# Altium footprint library XH2.54.PcbLib: 22 footprints (part 2 of 2)
Each footprint in its own frame and in the unit in brackets; x right, y up, seen from the top. Pads: shape width x height; smd on the part's side, far side on the other; paste and mask are expansions set on the pad; w line width, h text height; cw(c..) or ccw(c..) is an arc to the next point about the centre after c.
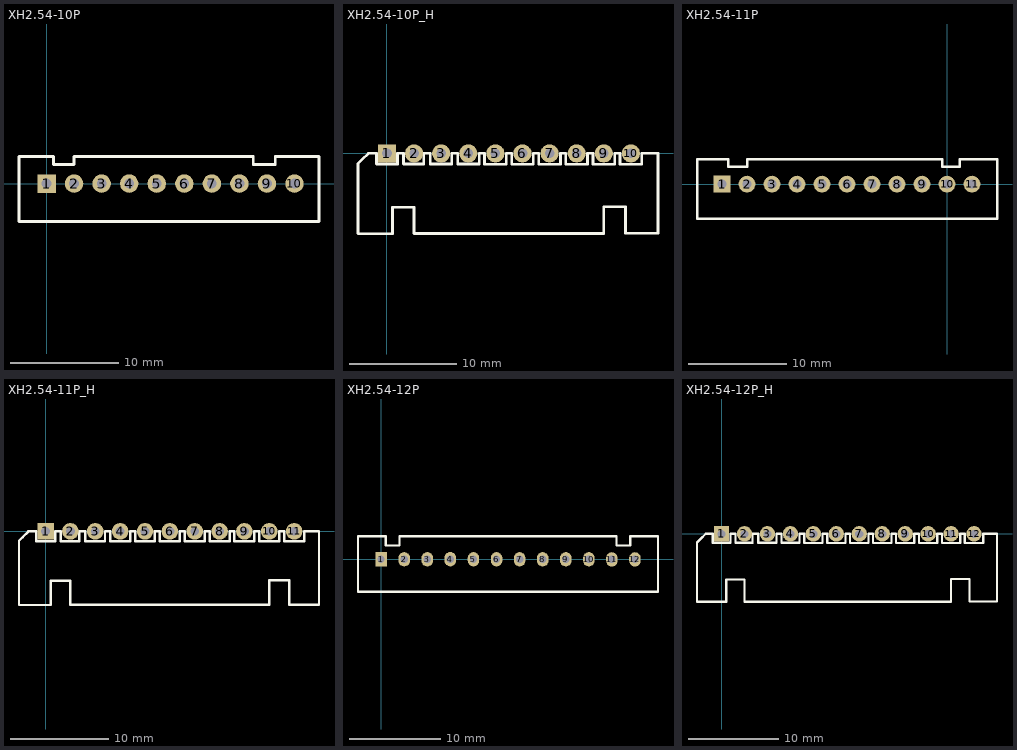
[diagram p1: the footprints below, top view; thin cyan lines are the x and y axes]

## XH2.54-10P [mm] "接插件，10P"
pads (10):
  rect 1.7x1.7 hole 0.9: 1(0,0)
  round 1.7 hole 0.9: 2(2.54,0) 3(5.08,0) 4(7.62,0) 5(10.16,0) 6(12.7,0) 7(15.24,0) 8(17.78,0) 9(20.32,0) 10(22.86,0)
Top Overlay:
  lines w0.254: -2.54,-3.5 25.121,-3.5 25.121,2.5 21.082,2.5 21.082,1.75 19.05,1.75 19.05,2.5 2.54,2.5 2.54,1.75 0.635,1.75 0.635,2.5 -2.54,2.5 -2.54,-3.5
3D body: height 7.03, standoff -2.47, extent -2.5,-3.3 25.36,2.4

## XH2.54-10P_H [mm] "接插件，10P"
pads (10):
  rect 1.7x1.7 hole 0.9: 1(0,0)
  round 1.7 hole 0.9: 2(2.54,0) 3(5.08,0) 4(7.62,0) 5(10.16,0) 6(12.7,0) 7(15.24,0) 8(17.78,0) 9(20.32,0) 10(22.86,0)
Top Overlay:
  lines w0.254: 3.434,0 3.434,-0.988 3.42,-1.002 1.554,-1.002 1.554,0 0.982,0 0.982,-0.982 0.996,-0.996 -0.96,-0.996 -0.974,-0.982 -0.974,0 -1.75,0 -2.332,-0.582 -2.716,-0.966 -2.716,-7.502 -2.69,-7.528 0.508,-7.528 0.508,-5.058 2.54,-5.058 2.54,-7.502 20.32,-7.502 20.32,-5.006 22.352,-5.006 22.352,-7.49 25.4,-7.49 25.4,0 23.876,0 23.876,-1.016 21.844,-1.016 21.844,0 21.336,0 21.336,-1.016 19.304,-1.016 19.304,0 18.796,0 18.796,-1.016 16.764,-1.016 16.764,0 16.256,0 16.256,-1.016 14.224,-1.016 14.224,0 13.716,0 13.716,-1.016 11.684,-1.016 11.684,0 11.176,0 11.176,-1.016 9.144,-1.016 9.144,0 8.636,0 8.636,-1.002 6.632,-1.002 6.632,0 ; 3.446,0 4.044,0 ; 4.058,-0.996 4.058,0 ; 4.078,-0.996 6.066,-0.996 6.072,-0.99 6.072,0 6.618,0
3D body: height 5.73, standoff -3.37, extent -2.5,-7.35 25.36,0.35

## XH2.54-11P [mm] "接插件，11P"
pads (11):
  rect 1.7x1.7 hole 0.9: 1(-22.86,0)
  round 1.7 hole 0.9: 2(-20.32,0) 3(-17.78,0) 4(-15.24,0) 5(-12.7,0) 6(-10.16,0) 7(-7.62,0) 8(-5.08,0) 9(-2.54,0) 10(0,0) 11(2.54,0)
Top Overlay:
  lines w0.254: -25.4,-3.5 -25.4,2.5 -22.225,2.5 -22.225,1.75 -20.32,1.75 -20.32,2.5 -0.508,2.5 -0.508,1.75 1.27,1.75 1.27,2.5 5.08,2.5 5.08,-3.5 -25.4,-3.5
3D body: height 7.03, standoff -3.37, extent -25.36,-3.3 5.04,2.4

## XH2.54-11P_H [mm] "接插件，11P"
pads (11):
  rect 1.7x1.7 hole 0.9: 1(0,0)
  round 1.7 hole 0.9: 2(2.54,0) 3(5.08,0) 4(7.62,0) 5(10.16,0) 6(12.7,0) 7(15.24,0) 8(17.78,0) 9(20.32,0) 10(22.86,0) 11(25.4,0)
Top Overlay:
  lines w0.254: 3.434,0 3.434,-0.988 3.42,-1.002 1.554,-1.002 1.554,0 0.982,0 0.982,-0.982 0.996,-0.996 -0.96,-0.996 -0.974,-0.982 -0.974,0 -1.75,0 -2.332,-0.582 -2.716,-0.966 -2.716,-7.502 -2.69,-7.528 0.508,-7.528 0.508,-5.058 2.54,-5.058 2.54,-7.502 22.86,-7.502 22.86,-5.006 24.892,-5.006 24.892,-7.49 27.94,-7.49 27.94,0 26.416,0 26.416,-1.016 24.384,-1.016 24.384,0 23.876,0 23.876,-1.016 21.844,-1.016 21.844,0 21.336,0 21.336,-1.016 19.304,-1.016 19.304,0 18.796,0 18.796,-1.016 16.764,-1.016 16.764,0 16.256,0 16.256,-1.016 14.224,-1.016 14.224,0 13.716,0 13.716,-1.016 11.684,-1.016 11.684,0 11.176,0 11.176,-1.016 9.144,-1.016 9.144,0 8.636,0 8.636,-1.002 6.632,-1.002 6.632,0 ; 3.446,0 4.044,0 ; 4.058,-0.996 4.058,0 ; 4.078,-0.996 6.066,-0.996 6.072,-0.99 6.072,0 6.618,0
3D body: height 5.73, standoff -3.37, extent -2.5,-7.35 27.9,0.35

## XH2.54-12P [mil] "接插件，12P"
pads (12):
  rect 50x62 hole 32: 1(0,0)
  oval 50x62 hole 32: 2(100.5,0.5) 3(200.5,0.5) 4(300,0.73) 5(400.5,0.5) 6(500.5,0.5) 7(600.5,0.5) 8(700.5,0.5) 9(800.5,0.5) 10(900.5,0.5) 11(1000,0) 12(1100,0)
Top Overlay:
  lines w10: -99.83,-140 -99.83,-79.35 -99.83,100 20,100 20,60 80,60 80,100 1020,100 1020,60 1080,60 1080,100 1200,100 1200,-140 -99.83,-140
3D body: height 277.56, standoff -96.46, extent -98.43,-129.92 1198.43,94.49

## XH2.54-12P_H [mm] "接插件，12P"
pads (12):
  rect 1.7x1.7 hole 0.9: 1(0,0)
  round 1.7 hole 0.9: 2(2.54,0) 3(5.08,0) 4(7.62,0) 5(10.16,0) 6(12.7,0) 7(15.24,0) 8(17.78,0) 9(20.32,0) 10(22.86,0) 11(25.4,0) 12(27.94,0)
Top Overlay:
  lines w0.254: 3.434,0 3.434,-0.988 3.42,-1.002 1.554,-1.002 1.554,0 0.982,0 0.982,-0.982 0.996,-0.996 -0.96,-0.996 -0.974,-0.982 -0.974,0 -1.75,0 -2.332,-0.582 -2.716,-0.966 -2.716,-7.502 -2.69,-7.528 0.508,-7.528 0.508,-5.058 2.54,-5.058 2.54,-7.502 25.4,-7.502 25.4,-5.006 27.432,-5.006 27.432,-7.49 30.48,-7.49 30.48,0 28.956,0 28.956,-1.016 26.924,-1.016 26.924,0 26.416,0 26.416,-1.016 24.384,-1.016 24.384,0 23.876,0 23.876,-1.016 21.844,-1.016 21.844,0 21.336,0 21.336,-1.016 19.304,-1.016 19.304,0 18.796,0 18.796,-1.016 16.764,-1.016 16.764,0 16.256,0 16.256,-1.016 14.224,-1.016 14.224,0 13.716,0 13.716,-1.016 11.684,-1.016 11.684,0 11.176,0 11.176,-1.016 9.144,-1.016 9.144,0 8.636,0 8.636,-1.002 6.632,-1.002 6.632,0 ; 3.446,0 4.044,0 ; 4.058,-0.996 4.058,0 ; 4.078,-0.996 6.066,-0.996 6.072,-0.99 6.072,0 6.618,0
3D body: height 5.75, standoff -3.35, extent -2.5,-7.35 30.44,0.35